# Altium schematic symbol library USB-UART.SchLib: 1 symbol
Pins are listed as number, name and electrical type; pins without a type are passive.

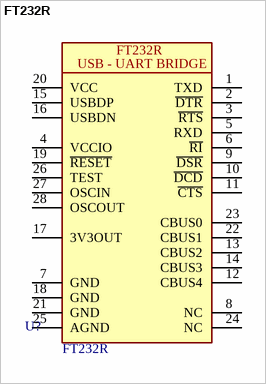
[diagram p0: symbol FT232R]

## FT232R
designator U?  value FT232R
USB to Serial UART, USB to UART, 1.8 → 5 V, 28-Pin SSOP; Manufacturer 1: *; Manufacturer Part Number 1: *
footprint SOP65P780X200-28M (SOP, 28-Leads, Body 10.28x5.30mm, Pitch 0.65mm, IPC Low Density)
pins: 1 TXD, 2 ~{DTR}, 3 ~{RTS}, 4 VCCIO, 5 RXD, 6 ~{RI}, 7 GND, 8 NC, 9 ~{DSR}, 10 ~{DCD}, 11 ~{CTS}, 12 CBUS4, 13 CBUS2, 14 CBUS3, 15 USBDP, 16 USBDN, 17 3V3OUT, 18 GND, 19 ~{RESET}, 20 VCC, 21 GND, 22 CBUS1, 23 CBUS0, 24 NC, 25 AGND, 26 TEST, 27 OSCIN, 28 OSCOUT
text: USB - UART BRIDGE